# Altium schematic symbol library AFC30-S24FCA-00_2021-08-20.SCHLIB: 1 symbol
Pins are listed as number, name and electrical type; pins without a type are passive.

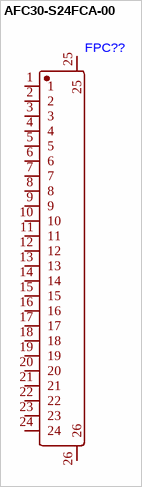
[diagram p0: symbol AFC30-S24FCA-00]

## AFC30-S24FCA-00
designator FPC??
footprint FPC-SMD_AFC30-S24FCA-00
pins: 1, 2, 3, 4, 5, 6, 7, 8, 9, 10, 11, 12, 13, 14, 15, 16, 17, 18, 19, 20, 21, 22, 23, 24, 25, 26